# EAGLE library part AFA07-S20FCA-00 (library AFA07-S20FCA-00)
FFC, FPC Connectors P=1mm RoHS Source: Datasheet <https://datasheet.lcsc.com/szlcsc/JUSHUO-AFA07-S20FCA-00_C262724.pdf>
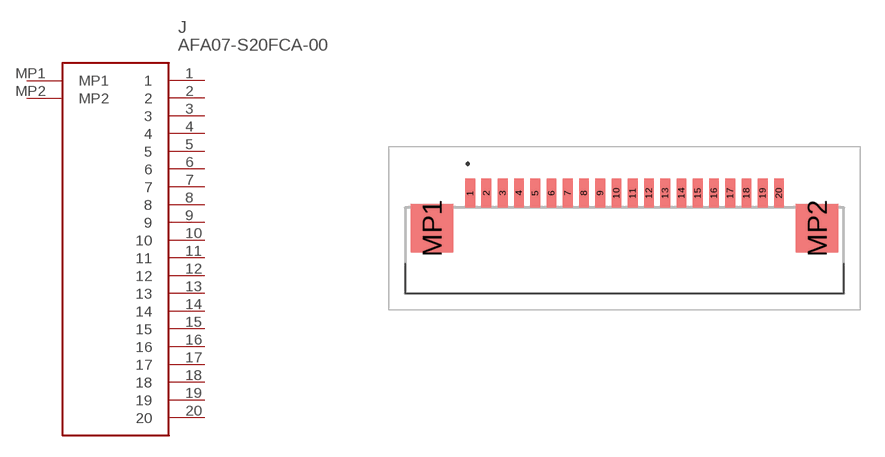
[diagram p0: symbol with the pads of AFA07S20FCA00; footprint AFA07S20FCA00]

Designator prefix J

## AFA07-S20FCA-00 (Description: FFC, FPC Connectors P=1mm RoHS; Height: 2.5mm; Manufacturer_Name: JUSHUO; Manufacturer_Part_Number: AFA07-S20FCA-00)  [AFA07S20FCA00]
1  1
2  2
3  3
4  4
5  5
6  6
7  7
8  8
9  9
10  10
11  11
12  12
13  13
14  14
15  15
16  16
17  17
18  18
19  19
20  20
MP1  MP1
MP2  MP2

## Footprint AFA07S20FCA00 (pad centres in mm)
AFA07-S20FCA-00-2
smd 0.6 x 1.8: 1 -9.5,3.546; 2 -8.5,3.546; 3 -7.5,3.546; 4 -6.5,3.546; 5 -5.5,3.546; 6 -4.5,3.546; 7 -3.5,3.546; 8 -2.5,3.546; 9 -1.5,3.546; 10 -0.5,3.546; 11 0.5,3.546; 12 1.5,3.546; 13 2.5,3.546; 14 3.5,3.546; 15 4.5,3.546; 16 5.5,3.546; 17 6.5,3.546; 18 7.5,3.546; 19 8.5,3.546; 20 9.5,3.546
smd 2.6 x 3: MP1 -11.85,1.375; MP2 11.85,1.375